# EAGLE library part 62002021121 (library Eagle_BOARD-TO-BOARD_CONNECTORS (rev18b))
WR-PHD 2.00mm Dual Pin Header, 20 Pins=>Code : WR-PHD_Dual_Pin_Header_62002021121 <http://katalog.we-online.de/media/images/eican/WR-PHD_Dual_Pin_Header_6200xx21121.jpg> Details see: http://katalog.we-online.de/en/em/620_0xx_211_21 Created 2014-06-03, Karrer Zheng 2014 (C) Würth Elektronik
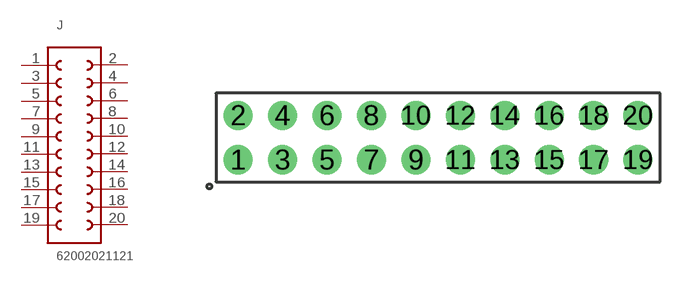
[diagram p226: symbol with the pads of 62002021121; footprint 62002021121]

Designator prefix J

## 62002021121  [62002021121]
1  1  pas
2  20  pas
3  2  pas
4  19  pas
5  3  pas
6  18  pas
7  4  pas
8  17  pas
9  5  pas
10  16  pas
11  6  pas
12  15  pas
13  7  pas
14  14  pas
15  8  pas
16  13  pas
17  9  pas
18  12  pas
19  10  pas
20  11  pas

## Footprint 62002021121 (pad centres in mm)
WR-PHD 2.00mm Dual Pin Header, 20 Pins
drill 0.8: 1 -9,-1; 2 -9,1; 3 -7,-1; 4 -7,1; 5 -5,-1; 6 -5,1; 7 -3,-1; 8 -3,1; 9 -1,-1; 10 -1,1; 11 1,-1; 12 1,1; 13 3,-1; 14 3,1; 15 5,-1; 16 5,1; 17 7,-1; 18 7,1; 19 9,-1; 20 9,1